# Altium schematic symbol library 0781271220.SchLib: 1 symbol
Pins are listed as number, name and electrical type; pins without a type are passive.

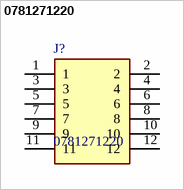
[diagram p0: symbol 0781271220]

## 0781271220
designator J?
Conn FFC/FPC Connector SKT 12 POS 0.5mm Solder ST SMD Easy-On T/R; Manufacturer_Name: Molex; Geometry.Height: 4.2mm; Mouser Part Number: 538-78127-1220; Mouser Price/Stock: https://www.mouser.co.uk/ProductDetail/Molex/0781271220?qs=BJlw7L4Cy79IAfNy30YYvQ%3D%3D; Manufacturer_Part_Number: 0781271220; Datasheet Link: https://www.molex.com/pdm_docs/sd/781271220_sd.pdf
footprint 0781271220
pins: 1, 2, 3, 4, 5, 6, 7, 8, 9, 10, 11, 12